# EAGLE library part GENERIC-2X4 (library p.peter-connectors)
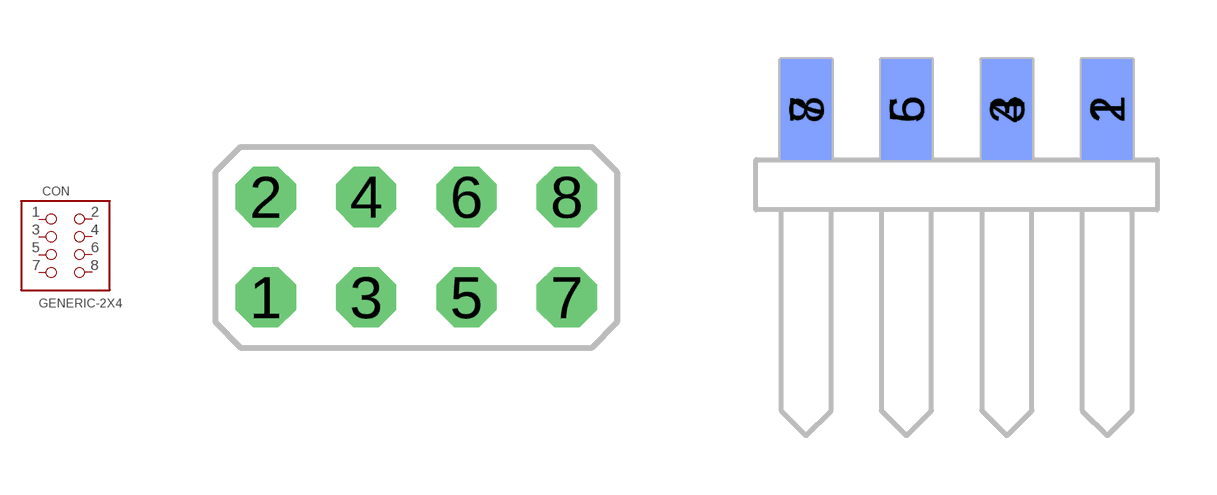
[diagram p14: symbol with the pads of PINHEADER-100MIL-2X4-NOSILK; footprints PINHEADER-100MIL-2X4-NOSILK, PINHEADER-2X4-EDGE]

Designator prefix CON

## GENERIC-2X4-NOSILK  [PINHEADER-100MIL-2X4-NOSILK]
1  1
2  2
3  3
4  4
5  5
6  6
7  7
8  8

## GENERIC-2X4-EDGE  [PINHEADER-2X4-EDGE]
Pads as for PINHEADER-100MIL-2X4-NOSILK

## Footprint PINHEADER-100MIL-2X4-NOSILK (pad centres in mm)
drill 1.016 octagon: 1 -3.81,-1.27; 2 -3.81,1.27; 3 -1.27,-1.27; 4 -1.27,1.27; 5 1.27,-1.27; 6 1.27,1.27; 7 3.81,-1.27; 8 3.81,1.27

## Footprint PINHEADER-2X4-EDGE (pad centres in mm)
smd 1.27 x 2.54: 1 3.81,2; 3 1.27,2; 5 -1.27,2; 7 -3.81,2
smd 1.27 x 2.54 bottom: 2 3.81,2; 4 1.27,2; 6 -1.27,2; 8 -3.81,2